# Altium schematic symbol library KM_BD01.SchLib: 37 symbols
Pins are listed as number, name and electrical type; pins without a type are passive.

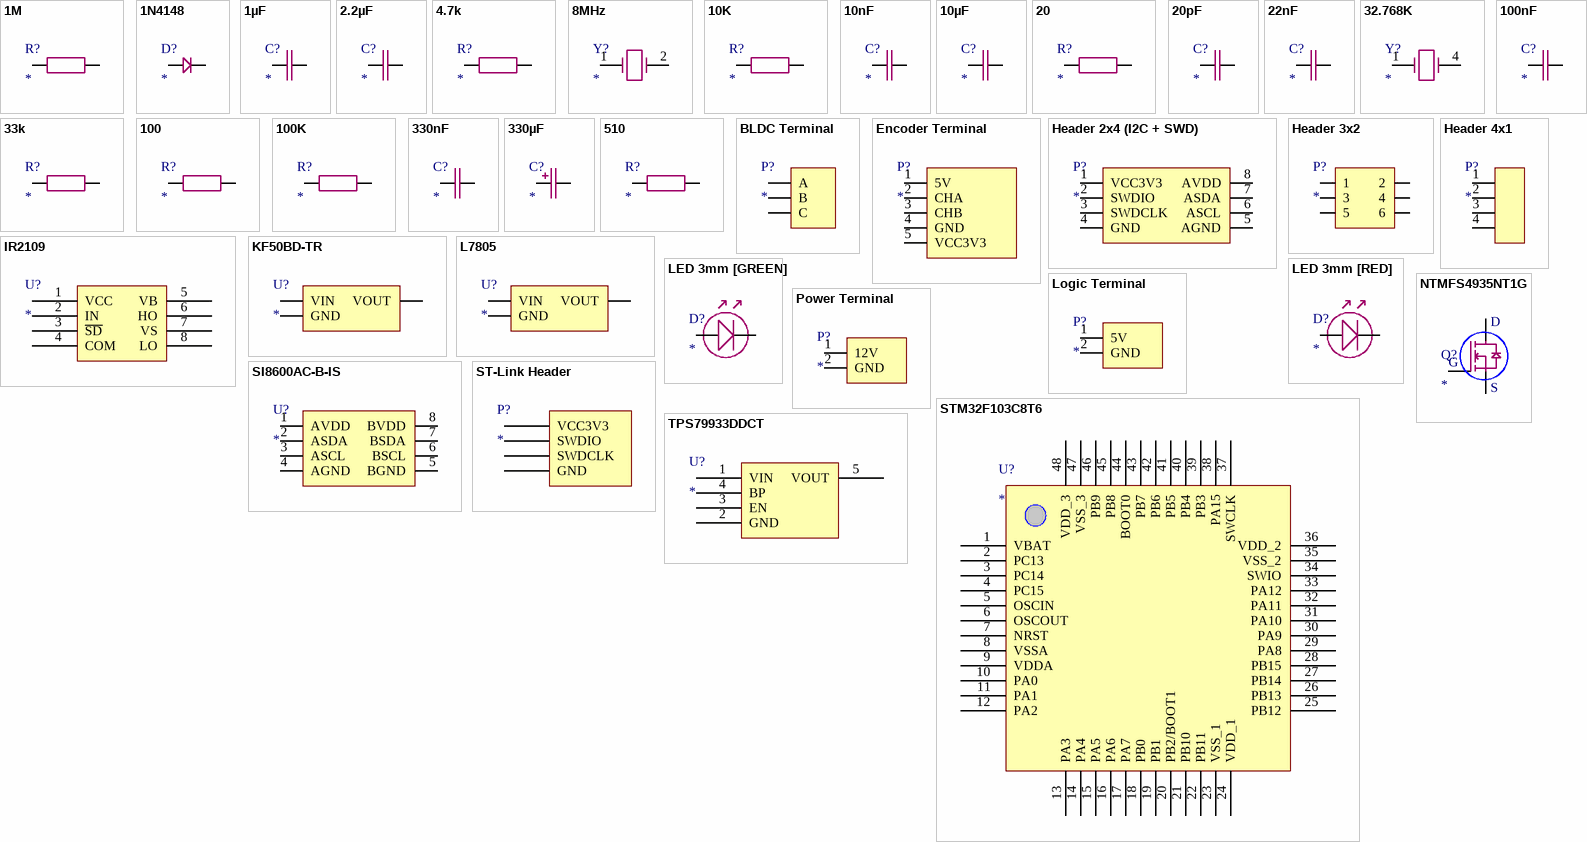
[diagram p0: symbols 1M to TPS79933DDCT]

## 1M
designator R?
Resistor
footprint SMD 1206 RES
footprint SMD 2512 RES
pins: 1, 2

## 1N4148
designator D?
Fast diode
footprint DO-35
pins: 1, 2

## 1µF
designator C?
Capacitor 1µF [105]
footprint SMD 1206 CAP
footprint SMD type A (Capacitor TECAP)
pins: 1, 2

## 2.2µF
designator C?
Capacitor 2.2µF [205]
footprint SMD 1206 CAP
footprint SMD type A (Capacitor TECAP)
pins: 1, 2

## 4.7k
designator R?
Resistor
footprint SMD 1206 RES
footprint SMD 2512 RES
pins: 1, 2

## 8MHz
designator Y?
Oscillator
footprint HC-49S (Oscillator)
footprint HC-49SM (SMD version of HC-49S)
pins: 1, 2

## 10K
designator R?
Resistor
footprint SMD 1206 RES
footprint SMD 2512 RES
pins: 1, 2

## 10nF
designator C?
Capacitor 10nF [103]
footprint SMD 1206 CAP
footprint Model Name (Model Description)
footprint SMD type A (Capacitor TECAP)
pins: 1, 2

## 10µF
designator C?
Capacitor 10µF [106]
footprint SMD 1206 CAP
footprint SMD type A (Capacitor TECAP)
pins: 1, 2

## 20
designator R?
Resistor
footprint SMD 1206 RES
footprint SMD 2512 RES
pins: 1, 2

## 20pF
designator C?
Capacitor 20pF
footprint SMD 1206 CAP
footprint SMD type A (Capacitor TECAP)
pins: 1, 2

## 22nF
designator C?
Capacitor 22nF [223]
footprint SMD 1206 CAP
footprint SMD type A (Capacitor TECAP)
pins: 1, 2

## 32.768K
designator Y?
Oscillator
footprint SMD 0803-8P4
pins: 1, 4

## 33k
designator R?
Resistor
footprint SMD 1206 RES
footprint SMD 2512 RES
pins: 1, 2

## 100
designator R?
Resistor
footprint SMD 1206 RES
footprint SMD 2512 RES
pins: 1, 2

## 100K
designator R?
Resistor
footprint SMD 1206 RES
footprint SMD 2512 RES
pins: 1, 2

## 100nF
designator C?
Capacitor 100nF [104]
footprint SMD 1206 CAP
footprint SMD type A (Capacitor TECAP)
pins: 1, 2

## 330nF
designator C?
Capacitor 330nF [334]
footprint SMD 1206 CAP
footprint SMD type A (Capacitor TECAP)
pins: 1, 2

## 330µF
designator C?
Capacitor 330µF [336]
footprint SMD 1206 CAP
footprint THD 6.3x11 CAP
footprint SMD type A (Capacitor TECAP)
pins: 1, 2

## 510
designator R?
Resistor
footprint SMD 1206 RES
footprint SMD 2512 RES
pins: 1, 2

## BLDC Terminal
designator P?
3-pad terminal
footprint Universal 3-Phase Terminal
pins: 1 A, 2 B, 3 C

## Encoder Terminal
designator P?
5-pin PLS terminal
footprint PLS_5
pins: 1 5V, 2 CHA, 3 CHB, 4 GND, 5 VCC3V3

## Header 2x4 (I2C + SWD)
designator P?
8-pin PLS terminal
footprint PLS_4x2
pins: 1 VCC3V3, 2 SWDIO, 3 SWDCLK, 4 GND, 5 AGND, 6 ASCL, 7 ASDA, 8 AVDD

## Header 3x2
designator P?
6-pin PLS terminal
footprint PLS_3x2
footprint PLS_3x2 (Without legs)
pins: 1, 2, 3, 4, 5, 6

## Header 4x1
designator P?
4-pin PLS terminal
footprint PLS_4
pins: 1, 2, 3, 4

## IR2109
designator U?
Fast Half-Bridge Driver
footprint SOIC-8
pins: 1 VCC, 2 IN, 3 ~{SD}, 4 COM, 5 VB, 6 HO, 7 VS, 8 LO

## KF50BD-TR
designator U?
Linear Voltage Regulator (5V)
footprint SOIC-8 (KF50BD-TR)
pins: 1 VOUT, 2 GND, 5 VIN

## L7805
designator U?
Linear Voltage Regulator (5V)
footprint D2PAK
pins: 1 VIN, 2 VOUT, 3 GND

## LED 3mm [GREEN]
designator D?
footprint LED 3mm GREEN
pins: 1, 2

## LED 3mm [RED]
designator D?
footprint LED 3mm RED
pins: 1, 2

## Logic Terminal
designator P?
5V 2-pin PLS terminal
footprint PLS_2
pins: 1 5V, 2 GND

## NTMFS4935NT1G
designator Q?
Mosfet [OptiMOS]
footprint SO-8FL
pins: 1 G, 2 S, 3 D

## Power Terminal
designator P?
12V 2-pad terminal
footprint Universal Power Terminal
pins: 1 12V, 2 GND

## SI8600AC-B-IS
designator U?
Bidirectional I2C isolator
footprint SOIC-8
pins: 1 AVDD, 2 ASDA, 3 ASCL, 4 AGND, 5 BGND, 6 BSCL, 7 BSDA, 8 BVDD

## ST-Link Header
designator P?
4-pin PLS terminal
footprint PLS_4
pins: 1 VCC3V3, 2 SWDIO, 3 SWDCLK, 4 GND

## STM32F103C8T6
designator U?
Microcontroller
footprint TQFP-48 (Microcontroller)
pins: 1 VBAT, 2 PC13, 3 PC14, 4 PC15, 5 OSCIN, 6 OSCOUT, 7 NRST, 8 VSSA, 9 VDDA, 10 PA0, 11 PA1, 12 PA2, 13 PA3, 14 PA4, 15 PA5, 16 PA6, 17 PA7, 18 PB0, 19 PB1, 20 PB2/BOOT1, 21 PB10, 22 PB11, 23 VSS_1, 24 VDD_1, 25 PB12, 26 PB13, 27 PB14, 28 PB15, 29 PA8, 30 PA9, 31 PA10, 32 PA11, 33 PA12, 34 SWIO, 35 VSS_2, 36 VDD_2, 37 SWCLK, 38 PA15, 39 PB3, 40 PB4, 41 PB5, 42 PB6, 43 PB7, 44 BOOT0, 45 PB8, 46 PB9, 47 VSS_3, 48 VDD_3

## TPS79933DDCT
designator U?
Linear Voltage Regulator (3.3V)
footprint SOT95P245X110-5N (SOT23, 5-Leads, Body 2,90x2,45mm, Pitch 0,95mm, IPC Medium Density)
pins: 1 VIN, 2 GND, 3 EN, 4 BP, 5 VOUT